# EAGLE library part 2172034-1 (library 2172034-1)
CONN RCPT USB MINI B 2.0 PCB R/A
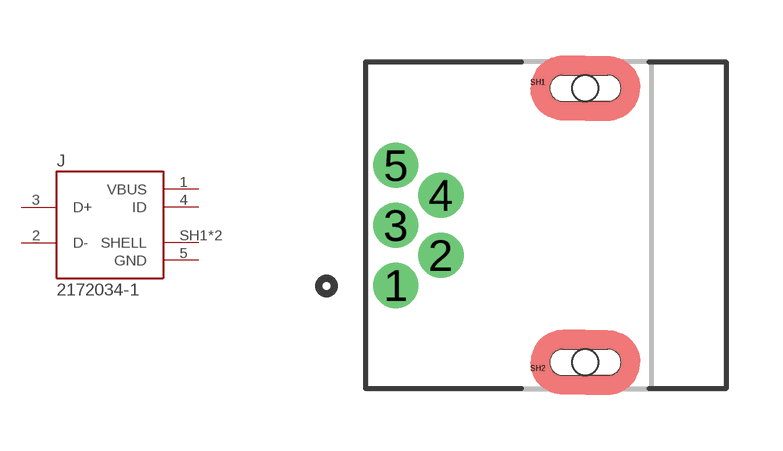
[diagram p0: symbol with the pads of TE_2172034-1; footprint TE_2172034-1]

Designator prefix J

## 2172034-1 (Comment: 2172034-1; Description: Conn Mini USB Type B RCP 5 POS 0.8mm Solder RA Thru-Hole 5 Terminal 1 Port Box/Tray; Digi-Key_Part_Number: A135698-ND; Digi-Key_Purchase_URL: https://www.digikey.com/product-detail/en/te-connectivity-amp-connectors/2172034-1/A135698-ND/5592056?utm_source=snapeda&utm_medium=aggregator&utm_campaign=symbol; EU_RoHS_Compliance: Compliant; MF: TE Connectivity; MP: 2172034-1; Package: None; TE_purchase_URL: https://www.te.com/usa-en/product-2172034-1.html?te_bu=Cor&te_type=disp&te_campaign=seda_glo_cor-seda-global-disp-prtnr-fy19-seda-model-bom-cta_sma-317_1&elqCampaignId=32493)  [TE_2172034-1]
1  VBUS  pwr
2  D-
3  D+
4  ID  pas
5  GND  pwr
SH1  SHELL  pwr
SH2  SHELL  pwr

## Footprint TE_2172034-1 (pad centres in mm)
drill 0.7: 1 -5.05,-1.6; 2 -3.85,-0.8; 3 -5.05,0; 4 -3.85,0.8; 5 -5.05,1.6
smd 0.1 x 0.1: SH1 -1.27,3.81; SH2 -1.27,-3.81
hole 0.7 at 0,3.65
hole 0.7 at 0,-3.65